# EAGLE library part ICE40-QFN32 (library MIDI router MCU parts)
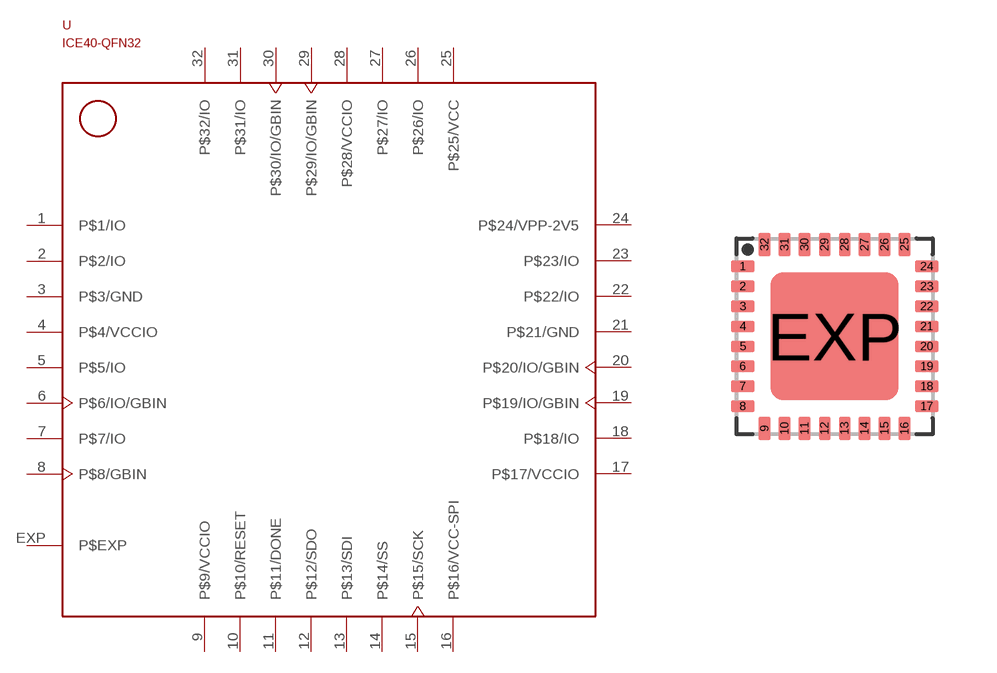
[diagram p0: symbol with the pads of QFN32; footprint QFN32]

Designator prefix -

## ICE40-QFN32  [QFN32]
1  P$1/IO
2  P$2/IO
3  P$3/GND
4  P$4/VCCIO
5  P$5/IO
6  P$6/IO/GBIN
7  P$7/IO
8  P$8/GBIN
9  P$9/VCCIO
10  P$10/RESET
11  P$11/DONE
12  P$12/SDO
13  P$13/SDI
14  P$14/SS
15  P$15/SCK
16  P$16/VCC-SPI
17  P$17/VCCIO
18  P$18/IO
19  P$19/IO/GBIN
20  P$20/IO/GBIN
21  P$21/GND
22  P$22/IO
23  P$23/IO
24  P$24/VPP-2V5
25  P$25/VCC
26  P$26/IO
27  P$27/IO
28  P$28/VCCIO
29  P$29/IO/GBIN
30  P$30/IO/GBIN
31  P$31/IO
32  P$32/IO
EXP  P$EXP

## Footprint QFN32 (pad centres in mm)
QFN 32 5 x 5 mm Source: http://datasheets.maxim-ic.com/en/ds/MAX7042.pdf
smd 0.6 x 0.3: 1 -2.3,1.75; 2 -2.3,1.25; 3 -2.3,0.75; 4 -2.3,0.25; 5 -2.3,-0.25; 6 -2.3,-0.75; 7 -2.3,-1.25; 8 -2.3,-1.75; 17 2.3,-1.75; 18 2.3,-1.25; 19 2.3,-0.75; 20 2.3,-0.25; 21 2.3,0.25; 22 2.3,0.75; 23 2.3,1.25; 24 2.3,1.75
smd 0.3 x 0.6: 9 -1.75,-2.3; 10 -1.25,-2.3; 11 -0.75,-2.3; 12 -0.25,-2.3; 13 0.25,-2.3; 14 0.75,-2.3; 15 1.25,-2.3; 16 1.75,-2.3; 25 1.75,2.3; 26 1.25,2.3; 27 0.75,2.3; 28 0.25,2.3; 29 -0.25,2.3; 30 -0.75,2.3; 31 -1.25,2.3; 32 -1.75,2.3
smd 3.2 x 3.2: EXP 0,0